# EAGLE library part ALEXIOS_JTAG-ALTERA (library video-max5)
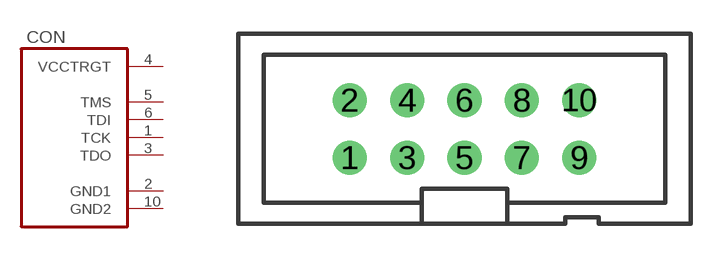
[diagram p3: symbol with the pads of ALEXIOS_SHROUDED-HEADER-2X5-2.5MM; footprint ALEXIOS_SHROUDED-HEADER-2X5-2.5MM]

Designator prefix CON

## ALEXIOS_JTAG-ALTERA  [ALEXIOS_SHROUDED-HEADER-2X5-2.5MM]
1  TCK
2  GND1  pas
3  TDO
4  VCCTRGT  pas
5  TMS
6  TDI
10  GND2  pas

## Footprint ALEXIOS_SHROUDED-HEADER-2X5-2.5MM (pad centres in mm)
3M (TM) Pak 100 4-Wall Header Straight Source: 3M
drill 1 pad 1.422 round: 1 -5.08,-1.27; 2 -5.08,1.27; 3 -2.54,-1.27; 4 -2.54,1.27; 5 0,-1.27; 6 0,1.27; 7 2.54,-1.27; 8 2.54,1.27; 9 5.08,-1.27; 10 5.08,1.27